# Altium footprint library PCB - IND - COIL-XAL5050.PCBLIB: 1 footprints
Each footprint in its own frame and in the unit in brackets; x right, y up, seen from the top. Pads: shape width x height; smd on the part's side, far side on the other; paste and mask are expansions set on the pad; w line width, h text height; cw(c..) or ccw(c..) is an arc to the next point about the centre after c.
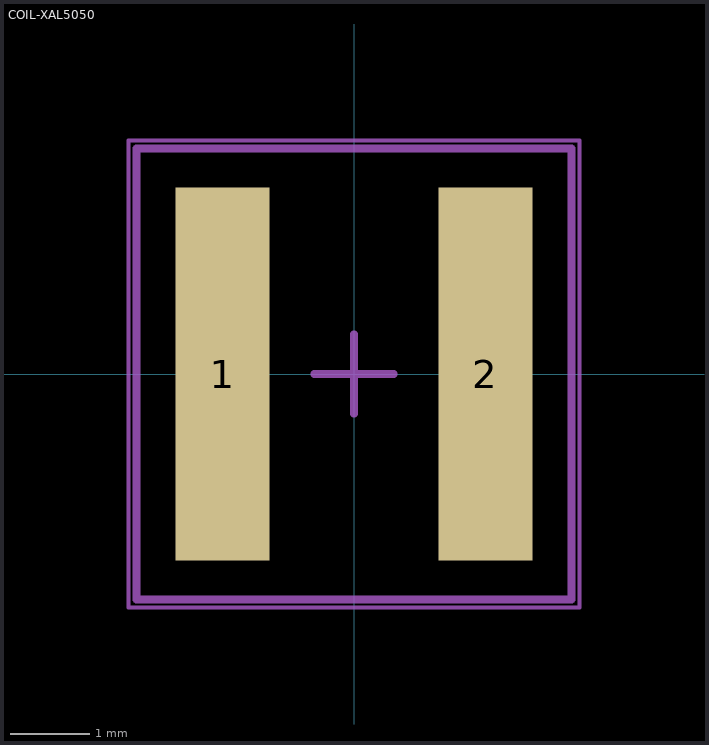
[diagram p0: the footprint, top view; thin cyan lines are the x and y axes]

## COIL-XAL5050 [mm] "SMD, 2-Leads, Body 5.68x5.48mm, Pitch 3.31mm"
height 5.1
pads (2):
  rect 1.18x4.7 smd paste+0: 1(-1.655,0) 2(1.655,0)
M5 Assembly Top:
  lines w0.1: -2.74,-2.84 2.74,-2.84 2.74,2.84 -2.74,2.84 -2.74,-2.84
  text ".Designator" at -1,-0.8 h1.52
Mechanical 15:
  lines w0.05: -2.84,-2.94 2.84,-2.94 2.84,2.94 -2.84,2.94 -2.84,-2.94
  lines w0.1: -0.5,0 0.5,0 ; 0,-0.5 0,0.5
3D body "Coilcraft-XAL5050.STEP": height 5, standoff -0.1, extent -2.74,-2.84 2.74,2.84